# EAGLE library part ANALOG_DEVICES_ADUM5010ARSZ (library Upverter Library)
ADI-ADUMX010-RS-20
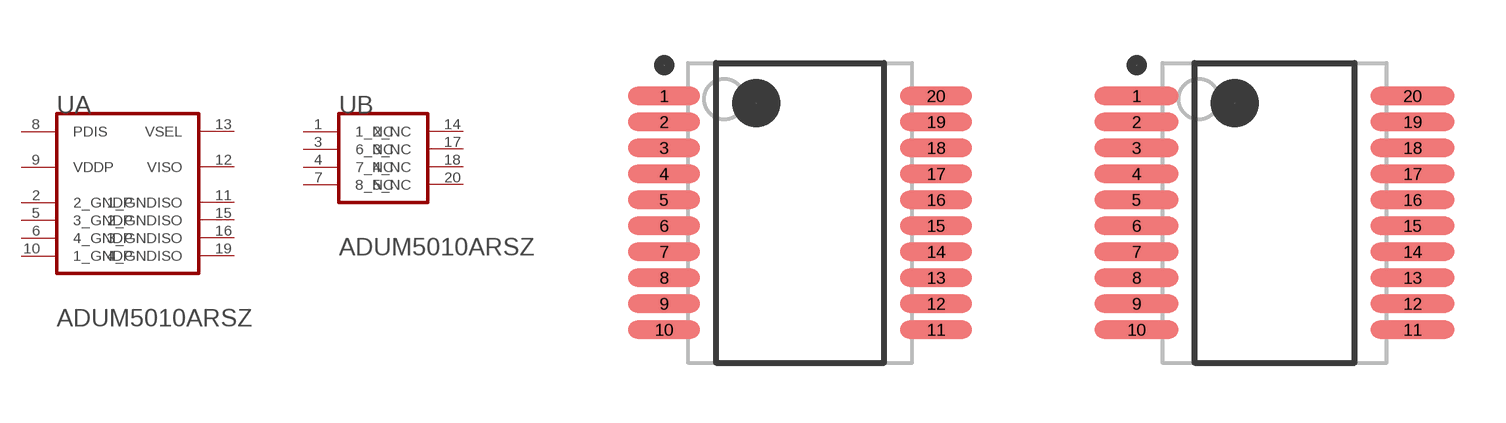
[diagram p0: symbol with the pads of ANALOG_DEVICES_ADUM5010ARSZ_0; footprints ANALOG_DEVICES_ADUM5010ARSZ_0, ANALOG_DEVICES_ADUM5010ARSZ_1]

Designator prefix U; gates A=ANALOG_DEVICES_ADUM5010ARSZ_0_0 B=ANALOG_DEVICES_ADUM5010ARSZ_0_1

## ANALOG_DEVICES_ADUM5010ARSZANALOG_DEVICES_ADUM5010ARSZ_0_0 (Code__JEDEC: MO-150AE; Component_Link_1_Description: Manufacturer URL; Component_Link_1_URL: http://www.analog.com/en/index.html; Component_Link_3_Description: Package Specification; Component_Link_3_URL: http://www.analog.com/static/imported-files/packages/318405805657546556503576154334802686596RS_20.pdf; Datasheet_Version: Rev. 0; Insulation_Rating_kVrms: 2.5; MF: Analog Devices; MPN: ADUM5010ARSZ; Max_Operating_Temp_degreesC: 105; Mounting_Technology: Surface Mount; Package_Description: 20-Pin Shrink Small Outline Package, Body 7.2 x 5.3 mm, Pitch 0.65 mm; Package_Version: Mar-03; ciiva_ids: 3764217; datasheet: http://www.analog.com/static/imported-files/data_sheets/ADuM5010.pdf; footprint_variant_name_0: Level C; footprint_variant_name_1: Level B; footprint_variant_name_2: Level A; import_ts: 1521845292; imported: yes; imported_from: vault; package: RS-20; prefix: U; release_date: 1391072382; vault_guid: 9BC48109-9A40-4F1D-B36C-1D61F9B53332; vault_revision: 2CE76EED-2DFA-4017-9E8A-C353C2C55E92)  [ANALOG_DEVICES_ADUM5010ARSZ_0]
1  B:1_NC  pas
2  A:2_GNDP  pwr
3  B:6_NC  pas
4  B:7_NC  pas
5  A:3_GNDP  pwr
6  A:4_GNDP  pwr
7  B:8_NC  pas
8  A:PDIS  in
9  A:VDDP  pwr
10  A:1_GNDP  pwr
11  A:1_GNDISO  pwr
12  A:VISO  pwr
13  A:VSEL  in
14  B:2_NC  pas
15  A:2_GNDISO  pwr
16  A:3_GNDISO  pwr
17  B:3_NC  pas
18  B:4_NC  pas
19  A:4_GNDISO  pwr
20  B:5_NC  pas

## ANALOG_DEVICES_ADUM5010ARSZANALOG_DEVICES_ADUM5010ARSZ_0_1 (Code__JEDEC: MO-150AE; Component_Link_1_Description: Manufacturer URL; Component_Link_1_URL: http://www.analog.com/en/index.html; Component_Link_3_Description: Package Specification; Component_Link_3_URL: http://www.analog.com/static/imported-files/packages/318405805657546556503576154334802686596RS_20.pdf; Datasheet_Version: Rev. 0; Insulation_Rating_kVrms: 2.5; MF: Analog Devices; MPN: ADUM5010ARSZ; Max_Operating_Temp_degreesC: 105; Mounting_Technology: Surface Mount; Package_Description: 20-Pin Shrink Small Outline Package, Body 7.2 x 5.3 mm, Pitch 0.65 mm; Package_Version: Mar-03; ciiva_ids: 3764217; datasheet: http://www.analog.com/static/imported-files/data_sheets/ADuM5010.pdf; footprint_variant_name_0: Level C; footprint_variant_name_1: Level B; footprint_variant_name_2: Level A; import_ts: 1521845292; imported: yes; imported_from: vault; package: RS-20; prefix: U; release_date: 1391072382; vault_guid: 9BC48109-9A40-4F1D-B36C-1D61F9B53332; vault_revision: 2CE76EED-2DFA-4017-9E8A-C353C2C55E92)  [ANALOG_DEVICES_ADUM5010ARSZ_1]
Pads as for ANALOG_DEVICES_ADUM5010ARSZ_0

## ANALOG_DEVICES_ADUM5010ARSZANALOG_DEVICES_ADUM5010ARSZ_0_2 (Code__JEDEC: MO-150AE; Component_Link_1_Description: Manufacturer URL; Component_Link_1_URL: http://www.analog.com/en/index.html; Component_Link_3_Description: Package Specification; Component_Link_3_URL: http://www.analog.com/static/imported-files/packages/318405805657546556503576154334802686596RS_20.pdf; Datasheet_Version: Rev. 0; Insulation_Rating_kVrms: 2.5; MF: Analog Devices; MPN: ADUM5010ARSZ; Max_Operating_Temp_degreesC: 105; Mounting_Technology: Surface Mount; Package_Description: 20-Pin Shrink Small Outline Package, Body 7.2 x 5.3 mm, Pitch 0.65 mm; Package_Version: Mar-03; ciiva_ids: 3764217; datasheet: http://www.analog.com/static/imported-files/data_sheets/ADuM5010.pdf; footprint_variant_name_0: Level C; footprint_variant_name_1: Level B; footprint_variant_name_2: Level A; import_ts: 1521845292; imported: yes; imported_from: vault; package: RS-20; prefix: U; release_date: 1391072382; vault_guid: 9BC48109-9A40-4F1D-B36C-1D61F9B53332; vault_revision: 2CE76EED-2DFA-4017-9E8A-C353C2C55E92)  [ANALOG_DEVICES_ADUM5010ARSZ_2]
Pads as for ANALOG_DEVICES_ADUM5010ARSZ_0

## Footprint ANALOG_DEVICES_ADUM5010ARSZ_0 (pad centres in mm)
ADI-ADUMX010-RS-20
smd 1.8 x 0.45: 1 -3.4,2.925; 2 -3.4,2.275; 3 -3.4,1.625; 4 -3.4,0.975; 5 -3.4,0.325; 6 -3.4,-0.325; 7 -3.4,-0.975; 8 -3.4,-1.625; 9 -3.4,-2.275; 10 -3.4,-2.925; 11 3.4,-2.925; 12 3.4,-2.275; 13 3.4,-1.625; 14 3.4,-0.975; 15 3.4,-0.325; 16 3.4,0.325; 17 3.4,0.975; 18 3.4,1.625; 19 3.4,2.275; 20 3.4,2.925

## Footprint ANALOG_DEVICES_ADUM5010ARSZ_1 (pad centres in mm)
ADI-ADUMX010-RS-20
smd 2.1 x 0.45: 1 -3.45,2.925; 2 -3.45,2.275; 3 -3.45,1.625; 4 -3.45,0.975; 5 -3.45,0.325; 6 -3.45,-0.325; 7 -3.45,-0.975; 8 -3.45,-1.625; 9 -3.45,-2.275; 10 -3.45,-2.925; 11 3.45,-2.925; 12 3.45,-2.275; 13 3.45,-1.625; 14 3.45,-0.975; 15 3.45,-0.325; 16 3.45,0.325; 17 3.45,0.975; 18 3.45,1.625; 19 3.45,2.275; 20 3.45,2.925

## Footprint ANALOG_DEVICES_ADUM5010ARSZ_2 (pad centres in mm)
ADI-ADUMX010-RS-20
smd 2.4 x 0.45: 1 -3.5,2.925; 2 -3.5,2.275; 3 -3.5,1.625; 4 -3.5,0.975; 5 -3.5,0.325; 6 -3.5,-0.325; 7 -3.5,-0.975; 8 -3.5,-1.625; 9 -3.5,-2.275; 10 -3.5,-2.925; 11 3.5,-2.925; 12 3.5,-2.275; 13 3.5,-1.625; 14 3.5,-0.975; 15 3.5,-0.325; 16 3.5,0.325; 17 3.5,0.975; 18 3.5,1.625; 19 3.5,2.275; 20 3.5,2.925